# Altium schematic symbol library Connectors_EFR.SchLib: 133 symbols (part 1 of 3)
Pins are listed as number, name and electrical type; pins without a type are passive.

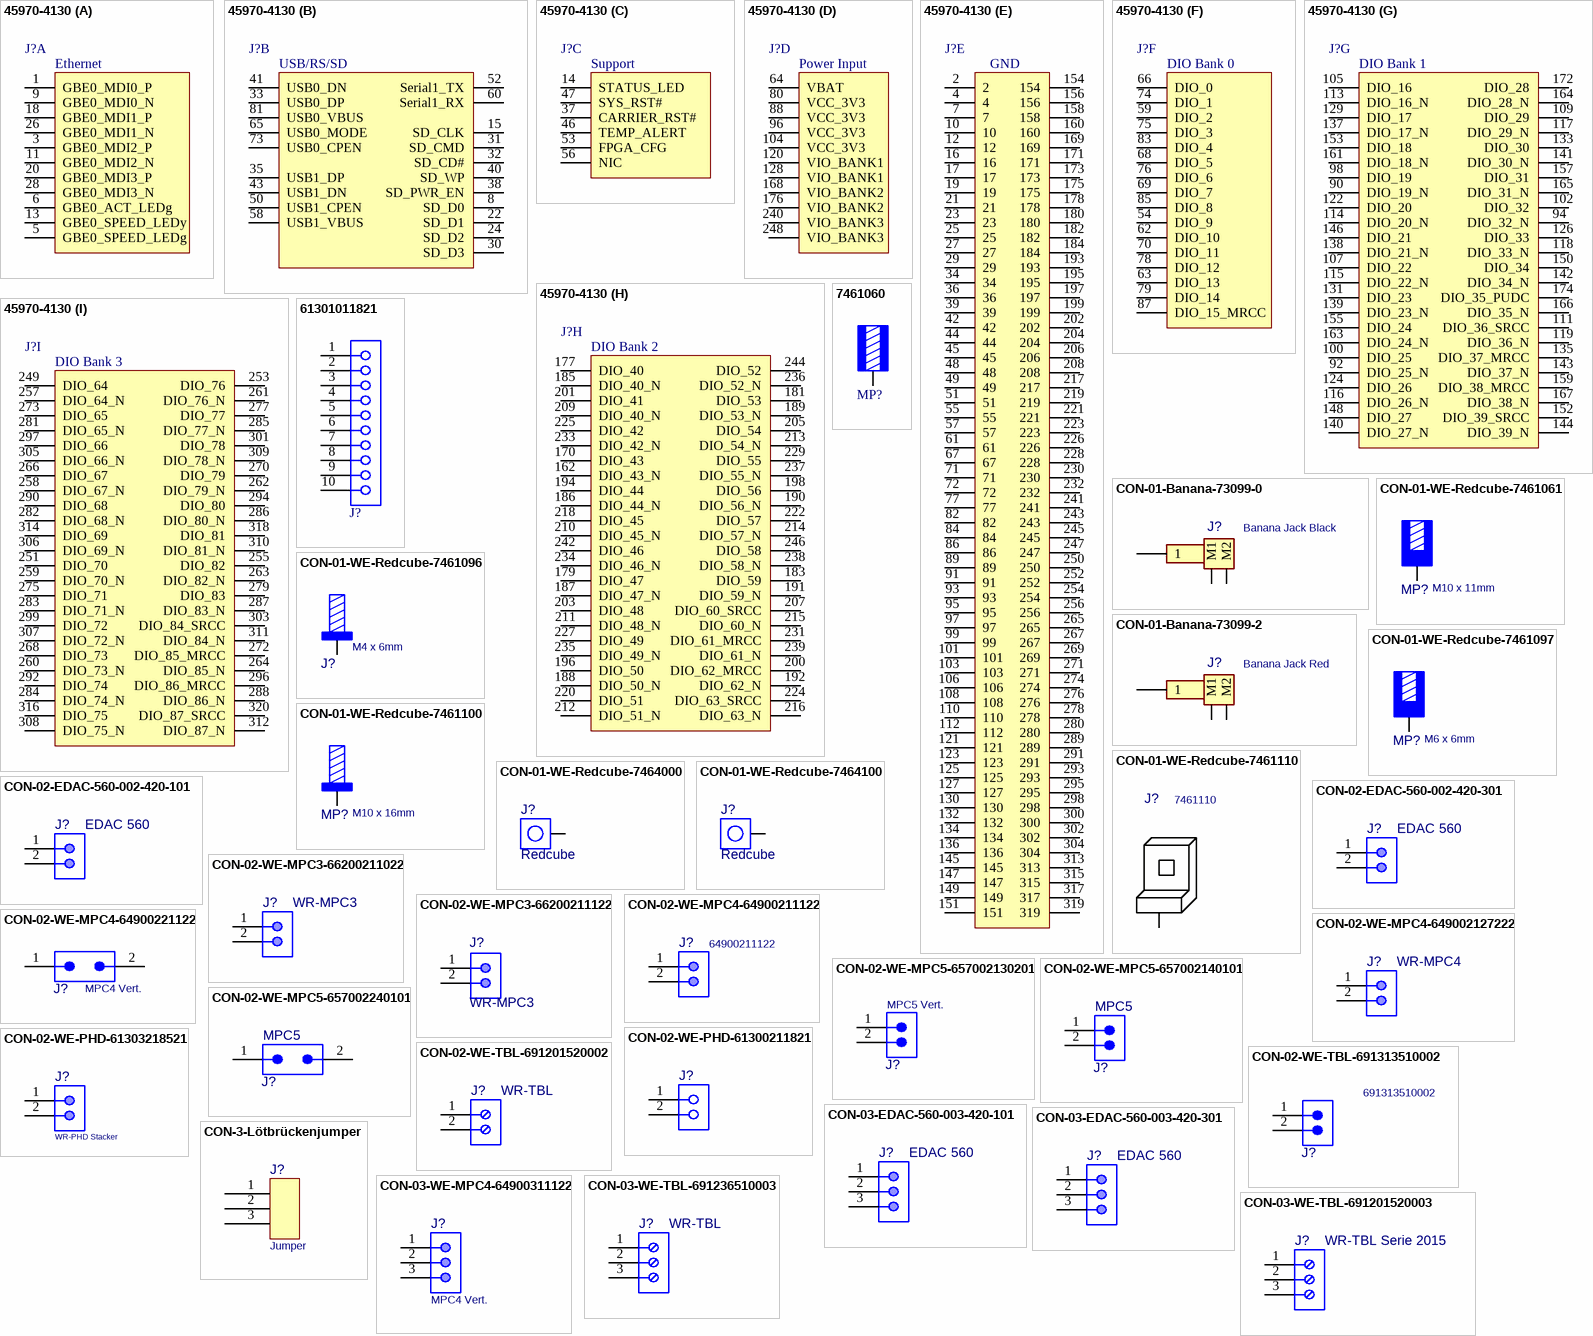
[diagram p0: symbols 45970-4130 to CON-03-WE-TBL-691236510003]

## 45970-4130
designator J?  (value not drawn)
SoM Molex Connector; Manufacturer P/N: 45970-4130; Datasheet Link: https://media.digikey.com/pdf/Data%20Sheets/Molex%20PDFs/459704130_Dwg.pdf; Height: 5.715mm; Manufacturer: Molex; Mouser Part Number: 538-45970-4130; Mouser Price/Stock: https://www.mouser.com/Search/Refine.aspx?Keyword=538-45970-4130; Mounting Technology: SMT
footprint 459704130
part A pins: 1 GBE0_MDI0_P, 3 GBE0_MDI2_P, 5 GBE0_SPEED_LEDg, 6 GBE0_ACT_LEDg, 9 GBE0_MDI0_N, 11 GBE0_MDI2_N, 13 GBE0_SPEED_LEDy, 18 GBE0_MDI1_P, 20 GBE0_MDI3_P, 26 GBE0_MDI1_N, 28 GBE0_MDI3_N
part B pins: 8 SD_D0, 15 SD_CLK, 22 SD_D1, 24 SD_D2, 30 SD_D3, 31 SD_CMD, 32 SD_CD#, 33 USB0_DP, 35 USB1_DP, 38 SD_PWR_EN, 40 SD_WP, 41 USB0_DN, 43 USB1_DN, 50 USB1_CPEN, 52 Serial1_TX, 58 USB1_VBUS, 60 Serial1_RX, 65 USB0_MODE, 73 USB0_CPEN, 81 USB0_VBUS
part C pins: 14 STATUS_LED, 37 CARRIER_RST#, 46 TEMP_ALERT, 47 SYS_RST#, 53 FPGA_CFG, 56 NIC
part D pins: 64 VBAT, 80 VCC_3V3, 88 VCC_3V3, 96 VCC_3V3, 104 VCC_3V3, 120 VIO_BANK1, 128 VIO_BANK1, 168 VIO_BANK2, 176 VIO_BANK2, 240 VIO_BANK3, 248 VIO_BANK3
part E pins: 2, 4, 7, 10, 12, 16, 17, 19, 21, 23, 25, 27, 29, 34, 36, 39, 42, 44, 45, 48, 49, 51, 55, 57, 61, 67, 71, 72, 77, 82, 84, 86, 89, 91, 93, 95, 97, 99, 101, 103, 106, 108, 110, 112, 121, 123, 125, 127, 130, 132, 134, 136, 145, 147, 149, 151, 154, 156, 158, 160, 169, 171, 173, 175, 178, 180, 182, 184, 193, 195, 197, 199, 202, 204, 206, 208, 217, 219, 221, 223, 226, 228, 230, 232, 241, 243, 245, 247, 250, 252, 254, 256, 265, 267, 269, 271, 274, 276, 278, 280, 289, 291, 293, 295, 298, 300, 302, 304, 313, 315, 317, 319
part F pins: 54 DIO_9, 59 DIO_2, 62 DIO_10, 63 DIO_13, 66 DIO_0, 68 DIO_5, 69 DIO_7, 70 DIO_11, 74 DIO_1, 75 DIO_3, 76 DIO_6, 78 DIO_12, 79 DIO_14, 83 DIO_4, 85 DIO_8, 87 DIO_15_MRCC
part G pins: 90 DIO_19_N, 92 DIO_25_N, 94 DIO_32_N, 98 DIO_19, 100 DIO_25, 102 DIO_32, 105 DIO_16, 107 DIO_22, 109 DIO_29, 111 DIO_36_SRCC, 113 DIO_16_N, 114 DIO_20_N, 115 DIO_22_N, 116 DIO_26_N, 117 DIO_29_N, 118 DIO_33_N, 119 DIO_36_N, 122 DIO_20, 124 DIO_26, 126 DIO_33, 129 DIO_17, 131 DIO_23, 133 DIO_30, 135 DIO_37_MRCC, 137 DIO_17_N, 138 DIO_21_N, 139 DIO_23_N, 140 DIO_27_N, 141 DIO_30_N, 142 DIO_34_N, 143 DIO_37_N, 144 DIO_39_N, 146 DIO_21, 148 DIO_27, 150 DIO_34, 152 DIO_39_SRCC, 153 DIO_18, 155 DIO_24, 157 DIO_31, 159 DIO_38_MRCC, 161 DIO_18_N, 163 DIO_24_N, 164 DIO_28_N, 165 DIO_31_N, 166 DIO_35_N, 167 DIO_38_N, 172 DIO_28, 174 DIO_35_PUDC
part H pins: 162 DIO_43_N, 170 DIO_43, 177 DIO_40, 179 DIO_47, 181 DIO_53, 183 DIO_59, 185 DIO_40_N, 186 DIO_44_N, 187 DIO_47_N, 188 DIO_50_N, 189 DIO_53_N, 190 DIO_56_N, 191 DIO_59_N, 192 DIO_62_N, 194 DIO_44, 196 DIO_50, 198 DIO_56, 200 DIO_62_MRCC, 201 DIO_41, 203 DIO_48, 205 DIO_54, 207 DIO_60_SRCC, 209 DIO_40_N, 210 DIO_45_N, 211 DIO_48_N, 212 DIO_51_N, 213 DIO_54_N, 214 DIO_57_N, 215 DIO_60_N, 216 DIO_63_N, 218 DIO_45, 220 DIO_51, 222 DIO_57, 224 DIO_63_SRCC, 225 DIO_42, 227 DIO_49, 229 DIO_55, 231 DIO_61_MRCC, 233 DIO_42_N, 234 DIO_46_N, 235 DIO_49_N, 236 DIO_52_N, 237 DIO_55_N, 238 DIO_58_N, 239 DIO_61_N, 242 DIO_46, 244 DIO_52, 246 DIO_58
part I pins: 249 DIO_64, 251 DIO_70, 253 DIO_76, 255 DIO_82, 257 DIO_64_N, 258 DIO_67_N, 259 DIO_70_N, 260 DIO_73_N, 261 DIO_76_N, 262 DIO_79_N, 263 DIO_82_N, 264 DIO_85_N, 266 DIO_67, 268 DIO_73, 270 DIO_79, 272 DIO_85_MRCC, 273 DIO_65, 275 DIO_71, 277 DIO_77, 279 DIO_83, 281 DIO_65_N, 282 DIO_68_N, 283 DIO_71_N, 284 DIO_74_N, 285 DIO_77_N, 286 DIO_80_N, 287 DIO_83_N, 288 DIO_86_N, 290 DIO_68, 292 DIO_74, 294 DIO_80, 296 DIO_86_MRCC, 297 DIO_66, 299 DIO_72, 301 DIO_78, 303 DIO_84_SRCC, 305 DIO_66_N, 306 DIO_69_N, 307 DIO_72_N, 308 DIO_75_N, 309 DIO_78_N, 310 DIO_81_N, 311 DIO_84_N, 312 DIO_87_N, 314 DIO_69, 316 DIO_75, 318 DIO_81, 320 DIO_87_SRCC
part A text: Ethernet
part B text: USB/RS/SD
part C text: Support
part D text: Power Input
part E text: GND
part F text: DIO Bank 0
part G text: DIO Bank 1
part H text: DIO Bank 2
part I text: DIO Bank 3

## 7461060
designator MP?, comment M10 x 17.5mm  (value not drawn)
WP-BUCF REDCUBE PRESS-FIT with internal thread, circumference, L16W16H17.5mm, M10 x 17.5mm, 350A; Manufacturer Part Number: 7461060; Manufacturer: Wurth Elektronik; Surface: Tin; ComponentLink1Description: Website Link; ComponentLink1URL: https://www.we-online.com/redexpert/article/7461060?ad; ComponentLink2Description: Datasheet Link; ComponentLink2URL: https://www.we-online.com/redexpert/spec/7461060?ad; Category: REDCUBE PRESS-FIT; Match Code: WP-BUCF; Mount: Press Fit; Operating Temperature Max: 150°C; Operating Temperature Min: -55°C; Packaging: Bulk; Length: 16mm; Width: 16mm; Height: 17.5mm; Material: Brass; Number of Pins: 20; Rated Current: 350A; Thread Length: 17.5mm; Thread Size: M10
footprint 7461060_chemical surface
footprint 7461060_HAL
pins: 1

## 61301011821
designator J?  (value not drawn)
WR-PHD Socket Header, THT, Vertical, pitch 2.54mm, 1 Row, 10P; Manufacturer: Wurth Elektronik; Contact Resistance: 20mOhm; Rated Current: 3A; Working Voltage: 250V; Withstanding Voltage: 500V; Manufacturer Part Number: 61301011821; Category: Board-to-Board Connectors; Match Code: WR-PHD; ComponentLink1Description: Website Link; ComponentLink1URL: https://www.we-online.com/redexpert/article/61301011821?ad; ComponentLink2Description: Datasheet Link; ComponentLink2URL: https://www.we-online.com/redexpert/spec/61301011821?ad; Mount: Through Hole; Operating Temperature Max: 105°C; Operating Temperature Min: -40°C; Packaging: Tray; Gender: Socket Header; Number of Pins: 10; Number of Rows: 1; Orientation: Vertical; Pitch: 2.54mm
footprint 61301011821
pins: 1, 2, 3, 4, 5, 6, 7, 8, 9, 10

## CON-01-Banana-73099-0
designator J?, comment Banana Jack Black
Banana Jack Connector Standard Banana Solder Black; Manufacturer: Pomona Electronics; Manufacturer P/N: 73099-0; ComponentLink1Description: Website; ComponentLink1URL: https://www.pomonaelectronics.com/products/hardware/4mm-mounting-safety-jack-pcb-right-angle; ComponentLink2Description: Datasheet; ComponentLink2URL: https://www.pomonaelectronics.com/sites/default/files/d73099_101.pdf; ComponentLink3Description: SnapEDA; ComponentLink3URL: https://www.snapeda.com/parts/73099-0/Pomona+Electronics/view-part/?ref=snap; Mounting Technology: THT; Color: Black; Series: 73099; Height (mm): 11.5; Length (mm): 33; Width (mm): 12
footprint CON-01-POMONA-73099-0 (Model 73099-0 Black / Right-Angle Mounting Safety Jack for PCB)
pins: 1, M1, M2

## CON-01-Banana-73099-2
designator J?, comment Banana Jack Red
Banana Jack Connector Standard Banana Solder Red; Manufacturer: Pomona Electronics; Manufacturer P/N: 73099-2; ComponentLink1Description: Website; ComponentLink1URL: https://www.pomonaelectronics.com/products/hardware/4mm-mounting-safety-jack-pcb-right-angle; ComponentLink2Description: Datasheet; ComponentLink2URL: https://www.pomonaelectronics.com/sites/default/files/d73099_101.pdf; ComponentLink3Description: SnapEDA; ComponentLink3URL: https://www.snapeda.com/parts/73099-2/Pomona+Electronics/view-part/?ref=snap; Mounting Technology: THT; Color: Red; Series: 73099; Height (mm): 11.5; Length (mm): 33; Width (mm): 12
footprint CON-01-POMONA-73099-2 (Model 73099-2 Red / Right-Angle Mounting Safety Jack for PCB)
pins: 1, M1, M2

## CON-01-WE-Redcube-7461061
designator MP?, comment M10 x 11mm
WP-BUFU REDCUBE PRESS-FIT with internal thread, full plain, L16W16H17.5mm, M10 x 11mm, 350A; Manufacturer P/N: 7461061; Manufacturer: Würth Elektronik; Surface: Tin; ComponentLink1Description: Website Link; ComponentLink1URL: https://www.we-online.com/redexpert/article/7461061?ad; ComponentLink2Description: Datasheet Link; ComponentLink2URL: https://www.we-online.com/redexpert/spec/7461061?ad; Category: REDCUBE PRESS-FIT; Match Code: WP-BUFU; Mounting Technology: Press Fit; Operating Temperature Max: 150°C; Operating Temperature Min: -55°C; Packaging: Bulk; Length: 16mm; Width: 16mm; Height: 17.5mm; Material: Brass; Number of Pins: 36; Rated Current: 350A; Thread Length: 11mm; Thread Size: M10
footprint 7461061_chemical surface
footprint 7461061_HAL
pins: 1

## CON-01-WE-Redcube-7461096
designator J?, comment M4 x 6mm
WP-SHFU REDCUBE PRESS-FIT with external thread, L7W7H9mm, M4 x 6mm, 130A; Manufacturer P/N: 7461096; Manufacturer: Würth Elektronik; Surface: Tin; ComponentLink1Description: Website Link; ComponentLink1URL: https://www.we-online.com/redexpert/article/7461096?ad; ComponentLink2Description: Datasheet Link; ComponentLink2URL: https://www.we-online.com/redexpert/spec/7461096?ad; Category: REDCUBE PRESS-FIT; Match Code: WP-SHFU; Mounting Technology: Press Fit; Operating Temperature Max: 150°C; Operating Temperature Min: -55°C; Packaging: Bulk; Length: 7mm; Width: 7mm; Height: 9mm; Material: Brass; Number of Pins: 9; Rated Current: 130A; Thread Length: 6mm; Thread Size: M4
footprint CON-01-WE-7461096_FOR_CHEMICAL_SURFACES (M4, thread 6mm)
footprint CON-01-WE-7461096_FOR_HAL (M4, thread 6mm)
pins: 1

## CON-01-WE-Redcube-7461097
designator MP?, comment M6 x 6mm
WP-BUFU REDCUBE PRESS-FIT with internal thread, full plain, L10W10H10.5mm, M6 x 6mm, 180A; Manufacturer P/N: 7461097; Manufacturer: Würth Elektronik; Surface: Tin; ComponentLink1Description: Website Link; ComponentLink1URL: https://www.we-online.com/redexpert/article/7461097?ad; ComponentLink2Description: Datasheet Link; ComponentLink2URL: https://www.we-online.com/redexpert/spec/7461097?ad; Category: REDCUBE PRESS-FIT; Match Code: WP-BUFU; Mounting Technology: Press Fit; Operating Temperature Max: 150°C; Operating Temperature Min: -55°C; Packaging: Bulk; Length: 10mm; Width: 10mm; Height: 10.5mm; Material: Brass; Number of Pins: 16; Rated Current: 180A; Thread Length: 6mm; Thread Size: M6
footprint 7461097_chemical surface
footprint 7461097_HAL
pins: 1

## CON-01-WE-Redcube-7461100
designator MP?, comment M10 x 16mm
WP-SHFU REDCUBE PRESS-FIT with external thread, L16W16H24mm, M10 x 16mm, 350A; Manufacturer P/N: 7461100; Manufacturer: Würth Elektronik; Surface: Tin; ComponentLink1Description: Website Link; ComponentLink1URL: https://www.we-online.com/redexpert/article/7461100?ad; ComponentLink2Description: Datasheet Link; ComponentLink2URL: https://www.we-online.com/redexpert/spec/7461100?ad; Category: REDCUBE PRESS-FIT; Match Code: WP-SHFU; Mounting Technology: Press Fit; Operating Temperature Max: 150°C; Operating Temperature Min: -55°C; Packaging: Bulk; Length: 16mm; Width: 16mm; Height: 24mm; Material: Brass; Number of Pins: 36; Rated Current: 350A; Thread Length: 16mm; Thread Size: M10
footprint 7461100_chemical surface
footprint 7461100_HAL
pins: 1

## CON-01-WE-Redcube-7461110
designator J?, comment 7461110
Wurth Elektronik REDCUBE 9 Pin Power Element, 130A, Press Fit, Right Angle; Manufacturer: Würth Elektronik; Geometry.Height: 14mm; Mouser Part Number: 710-7461110; Mouser Price/Stock: https://www.mouser.com/Search/Refine.aspx?Keyword=710-7461110; Manufacturer P/N: 7461110; Datasheet Link: https://componentsearchengine.com/Datasheets/1/7461110.pdf; Mounting Technology: Press Fit
footprint 7461110
pins: 1

## CON-01-WE-Redcube-7464000
designator J?, comment Redcube
WP-PLUG REDCUBE Direct Plug Terminal, 14.8x14.8mm, Red, 120A; Manufacturer P/N: 7464000; Manufacturer: Würth Elektronik; Pin Number: 12; ComponentLink1Description: Manufacturer; ComponentLink1URL: http://www.we-online.de; ComponentLink2Description: Datasheet; ComponentLink2URL: https://katalog.we-online.com/em/datasheet/7464000.pdf; Mounting Technology: Press-Fit; Contact Material: Copper Alloy; Contact Plating: Tin; Packaging: Bulk; Operating Temperature: -45 to +125degC; Height: 18.1mm; Publisher: Wurth Elektronik; Published Date: September 2019; Size: 14.8x14.8mm; Rated Current: 120A; Color: Red; Current (A): 120A
footprint CON-01-WE-7464000_for_HAL (Direct Plug Terminal, 12pins)
footprint CON-01-WE-7464000_for_chemical_surfaces (Direct Plug Terminal, 12pins)
pins: 1

## CON-01-WE-Redcube-7464100
designator J?, comment Redcube
WP-PLUG REDCUBE Direct Plug Terminal, 14.8x14.8mm, Black, 120A; Manufacturer P/N: 7464100; Manufacturer: Würth Elektronik; Pin Number: 12; ComponentLink1Description: Manufacturer; ComponentLink1URL: http://www.we-online.de; ComponentLink2Description: Datasheet; ComponentLink2URL: https://katalog.we-online.com/em/datasheet/7464100.pdf; Mounting Technology: Press-Fit; Contact Material: Copper Alloy; Contact Plating: Tin; Packaging: Bulk; Operating Temperature: -45 to +125degC; Height: 18.1mm; Publisher: Wurth Elektronik; Published Date: September 2019; Size: 14.8x14.8mm; Rated Current: 120A; Color: Black; Current (A): 120A
footprint CON-01-WE-7464100_for_HAL (Direct Plug Terminal, 12pins)
footprint CON-01-WE-7464100_for_chemical_surfaces (Direct Plug Terminal, 12pins)
pins: 1

## CON-02-EDAC-560-002-420-101
designator J?, comment EDAC 560
THT White Male 560 Series Waterproof Connector with Plastic Pegs, Vertical, Single Row, pitch 2.5 mm, 2 pins; Manufacturer P/N: 560-002-420-101; Pitch: 2.5 mm; Working Voltage: 250 V; Contact Resistance: 15 mOhm; PinNumber: 2; Current: 3A; ComponentLink1Description: Manufacturer; ComponentLink1URL: https://edac.net/series/560; ComponentLink2Description: Datasheet; ComponentLink2URL: https://files.edac.net/edac/content/560/560-002-420-101%20-%20EDAC%20E-SEAL%20Waterproof%20Connector.PDF; Manufacturer: EDAC; Operating Temperature: -40 to 105 °C; Gender: Male; Mounting Technology: THT; Orientation: Vertical; Supplier 1: Mouser; Supplier 2: Digi-Key; Supplier 3: Newark; Supplier Part Number 1: 587-560-002-420-101; Supplier Part Number 2: 151-1532-ND; Supplier Part Number 3: 78Y9693
footprint CON-02-EDAC_560-002-420-101 (EDAC 560 SERIES WATERPROOF CONNECTOR 2 Pin)
pins: 1, 2

## CON-02-EDAC-560-002-420-301
designator J?, comment EDAC 560
THT Blue Male 560 Series Waterproof Connector with Plastic Pegs, Vertical, Single Row, pitch 2.5 mm, 2 pins; Manufacturer P/N: 560-002-420-301; Pitch: 2.5 mm; Working Voltage: 250 V; Contact Resistance: 15 mOhm; PinNumber: 2; Current: 3A; ComponentLink1Description: Manufacturer; ComponentLink1URL: https://edac.net/series/560; ComponentLink2Description: Datasheet; ComponentLink2URL: https://files.edac.net/edac/content/560/560-002-420-301%20-%20EDAC%20E-SEAL%20Waterproof%20Connector.PDF; Manufacturer: EDAC; Operating Temperature: -40 to 105 °C; Gender: Male; Mounting Technology: THT; Orientation: Vertical; Supplier 1: Farnell; Supplier 2: Digi-Key; Supplier 3: Newark; Supplier Part Number 1: 2532336; Supplier Part Number 2: 151-1533-ND; Supplier Part Number 3: 80Y4252
footprint CON-02-EDAC_560-002-420-101 (EDAC 560 SERIES WATERPROOF CONNECTOR 2 Pin)
pins: 1, 2

## CON-02-WE-MPC3-66200211022
designator J?, comment WR-MPC3
THT Male Header WR-MPC3, with Snap-in Plastic Pegs, Right Angled, Single Row, pitch 3 mm, 2 pins; Manufacturer P/N: 66200211022; Manufacturer: Würth Elektronik; Pitch: 3 mm; Working Voltage: 250 VAC; Contact Resistance: 10 mOhm; PinNumber: 2; ComponentLink1Description: Manufacturer; ComponentLink1URL: http://www.we-online.de; ComponentLink2Description: Datasheet; ComponentLink2URL: https://katalog.we-online.de/em/datasheet/6620xx11022.pdf; Published Date: September 2018; Operating Temperature: -40 to 105 degC; Gender: Male; Mounting Technology: THT; Orientation: Right Angled
footprint CON-02-WE-66200211022 (3.00mm Male Single Row Angled Header with Plastic Pegs, 2p)
pins: 1, 2

## CON-02-WE-MPC3-66200211122
designator J?, comment WR-MPC3
THT Male Header WR-MPC3, Vertical, Single Row, pitch 3 mm, 2 pins; Manufacturer P/N: 66200211122; Manufacturer: Würth Elektronik; Pitch: 3 mm; Working Voltage: 250 VAC; Contact Resistance: 10 mOhm; PinNumber: 2; ComponentLink1Description: Manufacturer; ComponentLink1URL: http://www.we-online.de; ComponentLink2Description: Datasheet; ComponentLink2URL: https://katalog.we-online.de/em/datasheet/6620xx11122.pdf; Published Date: September 2018; Operating Temperature: -40 to 105 degC; Packaging: Tube; Gender: Male; Mounting Technology: THT; Orientation: Vertical
footprint CON-2-WR-66200211122 (3.00mm Male Single Row Vertical Header, 2p)
pins: 1, 2

## CON-02-WE-MPC4-64900211122
designator J?, comment 64900211122
THT Male Header WR-MPC4, Vertical, Single Row, pitch 4.2 mm, 2 pins; Manufacturer: Würth Elektronik; Pitch: 4.2 mm; Working Voltage: 600 VAC; Contact Resistance: 10 mOhm; Pin Number: 2; ComponentLink1Description: Manufacturer; ComponentLink1URL: http://www.we-online.de; ComponentLink2Description: Datasheet; ComponentLink2URL: https://katalog.we-online.de/em/datasheet/6490xx11122.pdf; Manufacturer P/N: 64900211122; Published Date: November 2019; Operating Temperature: -40 to 105 degC; Packaging: Tray; Gender: Male; Mounting Technology: THT; Orientation: Vertical
footprint CON-02-WE-64900211122 (4.20mm Male Single Row Vertical Header, 2p)
pins: 1, 2

## CON-02-WE-MPC4-64900221122
designator J?, comment MPC4 Vert.
WR-MPC4 THT Male Vertical Header, pitch 4.2mm, 2p; Manufacturer P/N: 64900221122; Manufacturer: Würth Elektronik; Contact Resistance: 10mΩ; Insulation Resistance: 1000MΩ; Rated Current: 9A; Working Voltage: 600VAC; ComponentLink1Description: Website Link; ComponentLink1URL: https://www.we-online.com/redexpert/article/64900221122?ad; ComponentLink2Description: Datasheet Link; ComponentLink2URL: https://www.we-online.com/redexpert/spec/64900221122?ad; Category: Wire-to-Board Connectors; Match Code: WR-MPC4; Mounting Technology: THT; Operating Temperature Max: 105°C; Operating Temperature Min: -40°C; Packaging: Tray; Gender: Male; Number of Pins: 2; Number of Rows: 2; Orientation: Vertical; Pitch: 4.2mm
footprint 64900221122
pins: 1, 2

## CON-02-WE-MPC4-649002127222
designator J?, comment WR-MPC4
THT Male Header WR-MPC4, with Snap-in Plastic Pegs, Right Angled, Single Row, pitch 4.2 mm, 2 pins; Manufacturer P/N: 649002127222; Manufacturer: Würth Elektronik; Pitch: 4.2 mm; Working Voltage: 600 VAC; Contact Resistance: 10 mOhm; PinNumber: 2; ComponentLink1Description: Manufacturer; ComponentLink1URL: http://www.we-online.de; ComponentLink2Description: Datasheet; ComponentLink2URL: https://katalog.we-online.de/em/datasheet/6490xx127222.pdf; Published Date: September 2018; Operating Temperature: -40 to 105 degC; Gender: Male; Mounting Technology: THT; Orientation: Right Angled
footprint CON-02-WE-649002127222 (4.20mm Male Single Row Angled Header with Mounting Pegs, 2p)
pins: 1, 2

## CON-02-WE-MPC5-657002130201
designator J?, comment MPC5 Vert.
WR-MPC5 5.70 mm Male Header Single Row Vertical, 2p; Manufacturer P/N: 657002130201; Manufacturer: Würth Elektronik; Contact Resistance: 2mOhm; Pitch: 5.7mm; Rated Current: 26A; Working Voltage: 600V (AC); Category: Wire-to-Board Connectors; Match Code: WR-MPC5; ComponentLink1Description: Website Link; ComponentLink1URL: https://www.we-online.com/redexpert/article/657002130201?ad; ComponentLink2Description: Datasheet Link; ComponentLink2URL: https://www.we-online.com/redexpert/spec/657002130201?ad; Mounting Technology: THT; Operating Temperature Max: 105°C; Operating Temperature Min: -40°C; Packaging: Tray; Gender: Male; Number of Pins: 2; Number of Rows: 1; Orientation: Vertical
footprint 657002130201
pins: 1, 2

## CON-02-WE-MPC5-657002140101
designator J?, comment MPC5
WR-MPC5 5.70 mm Male Header Single Row Right Angled with Snap-in Plastic Pegs, 2p; Manufacturer P/N: 657002140101; Manufacturer: Würth Elektronik; Contact Resistance: 2mOhm; Pitch: 5.7mm; Rated Current: 26A; Working Voltage: 600V (AC); Category: Wire-to-Board Connectors; Match Code: WR-MPC5; ComponentLink1Description: Website Link; ComponentLink1URL: https://www.we-online.com/redexpert/article/657002140101?ad; ComponentLink2Description: Datasheet Link; ComponentLink2URL: https://www.we-online.com/redexpert/spec/657002140101?ad; Mounting Technology: THT; Operating Temperature Max: 105°C; Operating Temperature Min: -40°C; Packaging: Tray; Gender: Male; Number of Pins: 2; Number of Rows: 1; Orientation: Right Angled
footprint CON-02-WE-657002140101 (WR-MPC5 THT Single Row Male Header Right Angled, 02p)
pins: 1, 2

## CON-02-WE-MPC5-657002240101
designator J?, comment MPC5
WR-MPC5 5.70 mm Male Header Dual Row Right Angled with Snap-in Plastic Pegs, 2p; Manufacturer P/N: 657002240101; Manufacturer: Würth Elektronik; Contact Resistance: 2mOhm; Pitch: 5.7mm; Rated Current: 26A; Working Voltage: 600V (AC); Category: Wire-to-Board Connectors; Match Code: WR-MPC5; ComponentLink1Description: Website Link; ComponentLink1URL: https://www.we-online.com/redexpert/article/657002240101?ad; ComponentLink2Description: Datasheet Link; ComponentLink2URL: https://www.we-online.com/redexpert/spec/657002240101?ad; Mounting Technology: THT; Operating Temperature Max: 105°C; Operating Temperature Min: -40°C; Packaging: Tray; Gender: Male; Number of Pins: 2; Number of Rows: 2; Orientation: Right Angled
footprint CON-02-WE-657002240101 (Footprint not found)
pins: 1, 2

## CON-02-WE-PHD-61300211821
designator J?
WR-PHD Socket Header, THT, pitch 2.54mm, Single Row, Vertical, 2p; Manufacturer P/N: 61300211821; Manufacturer: Würth Elektronik; Pin Number: 2; Rated Current: 3A; Working Voltage: 250VAC; Withstanding Voltage: 500VAC; Contact Resistance: 20mOhm; ComponentLink1Description: Manufacturer; ComponentLink1URL: http://www.we-online.de; ComponentLink2Description: Datasheet; ComponentLink2URL: https://www.we-online.com/catalog/datasheet/61300211821.pdf; Published Date: May 2020; Pitch: 2.54mm; Operating Temperature: -40 to +125degC; Mounting Technology: THT; Packaging: Tray; Gender: Socket Header; Row Number: Single; Orientation: Vertical
footprint CON-WE-61300211821 (Socket Header, Pitch 2.54 mm, THT, Vertical, single row, 2p)
pins: 1, 2

## CON-02-WE-PHD-61303218521
designator J?, comment WR-PHD Stacker
WR-PHD Pin Header, THT, pitch 2.54mm, Single Row, Vertical, 2p; Manufacturer P/N: 61303218521; Manufacturer: Würth Elektronik; Pin Number: 2; Rated Current: 3A; Working Voltage: 250VAC; Withstanding Voltage: 500VAC; Contact Resistance: 20mOhm; ComponentLink1Description: Manufacturer; ComponentLink1URL: https://www.we-online.com/catalog/en/PHD_2_54_THT_BOARD_STACKER_6130321XX21; ComponentLink2Description: Datasheet; ComponentLink2URL: https://www.we-online.com/catalog/datasheet/61303218521.pdf; Published Date: May 2020; Pitch: 2.54mm; Operating Temperature: -40 to +105degC; Mounting Technology: THT; Packaging: Bag; Gender: Pin Header; Row Number: Single; Orientation: Vertical
footprint CON-02-61303218521 (Pin Header, pitch 2.54 mm, THT, Vertical, single row, 2p)
pins: 1, 2

## CON-02-WE-TBL-691201520002
designator J?, comment WR-TBL
Serie 2015 - 5.08 mm 45deg Entry Modular with Rising Cage Clamp WR-TBL, 2 pin; Manufacturer P/N: 691201520002; Manufacturer: Würth Elektronik; PinNumber: 2; Pitch: 5.08 mm; ComponentLink1Description: Manufacturer; ComponentLink1URL: http://www.we-online.de; ComponentLink2Description: Datasheet; ComponentLink2URL: http://katalog.we-online.de/em/datasheet/6912015200xx.pdf; Published Date: June 2018; Operating Temperature: -30 to 120 degC; Mounting Technology: THT; Packaging: Box
footprint CON-02-WE-691201520002 (Footprint not found)
pins: 1, 2

## CON-02-WE-TBL-691313510002
designator J?, comment 691313510002
WR-TBL Series 313 Close Horizontal PCB Header, THT, pitch 5.08mm, 2p; Manufacturer: Wurth Elektronik; Modularity: No; Rated Current: 20A; Working Voltage: 300V; ComponentLink1Description: Website Link; ComponentLink1URL: https://www.we-online.com/redexpert/article/691313510002?ad; ComponentLink2Description: Datasheet Link; ComponentLink2URL: https://www.we-online.com/redexpert/spec/691313510002?ad; Manufacturer P/N: 691313510002; Category: Terminal Blocks; Series: WR-TBL; Mounting Technology: THT; Operating Temperature Max: 105°C; Operating Temperature Min: -40°C; Packaging: Box; Application: Pluggable; Number of Pins: 2; Number of Rows: 1; Orientation: Horizontal; Pitch: 5.08mm
footprint CON-02-WE-691313510002 (5,08mm - PCB Headers - Horizontal - Closed ends - 02p)
pins: 1, 2

## CON-03-EDAC-560-003-420-101
designator J?, comment EDAC 560
THT White Male 560 Series Waterproof Connector with Plastic Pegs, Vertical, Single Row, pitch 2.5 mm, 3 pins; Manufacturer P/N: 560-003-420-101; Pitch: 2.5 mm; Working Voltage: 250 V; Contact Resistance: 15 mOhm; PinNumber: 3; Current: 3A; ComponentLink1Description: Manufacturer; ComponentLink1URL: https://edac.net/series/560; ComponentLink2Description: Datasheet; ComponentLink2URL: https://files.edac.net/edac/content/560/560-003-420-101%20-%20EDAC%20E-SEAL%20Waterproof%20Connector.PDF; Manufacturer: EDAC; Operating Temperature: -40 to 105 °C; Gender: Male; Mounting Technology: THT; Orientation: Vertical; Supplier 1: Mouser; Supplier Part Number 1: 587-560-003-420-101
footprint CON-03-EDAC_560-003-420-101 (EDAC 560 SERIES WATERPROOF CONNECTOR 3 Pin)
pins: 1, 2, 3

## CON-03-EDAC-560-003-420-301
designator J?, comment EDAC 560
THT Blue Male 560 Series Waterproof Connector with Plastic Pegs, Vertical, Single Row, pitch 2.5 mm, 3 pins; Manufacturer P/N: 560-003-420-301; Pitch: 2.5 mm; Working Voltage: 250 V; Contact Resistance: 15 mOhm; PinNumber: 3; Current: 3A; ComponentLink1Description: Manufacturer; ComponentLink1URL: https://edac.net/series/560; ComponentLink2Description: Datasheet; ComponentLink2URL: https://files.edac.net/edac/content/560/560-003-420-301%20-%20EDAC%20E-SEAL%20Waterproof%20Connector.PDF; Manufacturer: EDAC; Operating Temperature: -40 to 105 °C; Gender: Male; Mounting Technology: THT; Orientation: Vertical
footprint CON-03-EDAC_560-003-420-101 (EDAC 560 SERIES WATERPROOF CONNECTOR 3 Pin)
pins: 1, 2, 3

## CON-3-Lötbrückenjumper
designator J?, comment Jumper
footprint CON-3-Lötbrückenjumper (3 Pads 0603)
pins: 1, 2, 3

## CON-03-WE-MPC4-64900311122
designator J?, comment MPC4 Vert.
WR-MPC4 4.2mm Male Single Row Vertical Header, 3p; Manufacturer P/N: 64900311122; Manufacturer: Würth Elektronik; Working Voltage: 600VAC; Contact Resistance: 10mOhm; Pin Number: 3; ComponentLink1Description: Manufacturer; ComponentLink1URL: http://www.we-online.de; ComponentLink2Description: Datasheet; ComponentLink2URL: https://www.we-online.com/catalog/datasheet/64900311122.pdf; Published Date: March 2020; Pitch: 4.2mm; Operating Temperature: -40 to +105degC; Packaging: Tray; Gender: Male; Mounting Technology: THT; Type: Vertical; Row Number: Single
footprint CON-03-WE-64900311122 (4.20mm Male Single Row Vertical Header, 3p)
pins: 1, 2, 3

## CON-03-WE-TBL-691201520003
designator J?, comment WR-TBL Serie 2015
Serie 2015 - 5.08 mm 45deg Entry Modular with Rising Cage Clamp WR-TBL, 3 pin; Manufacturer P/N: 691201520003; Manufacturer: Würth Elektronik; PinNumber: 3; Pitch: 5.08 mm; ComponentLink1Description: Manufacturer; ComponentLink1URL: http://www.we-online.de; ComponentLink2Description: Datasheet; ComponentLink2URL: http://katalog.we-online.de/em/datasheet/6912015200xx.pdf; Published Date: June 2018; Operating Temperature: -30 to 120 degC; Mounting Technology: THT
footprint CON-03-WE-691201520003 (Serie 2015 - 5.08 mm _ 3 pins)
pins: 1, 2, 3

## CON-03-WE-TBL-691236510003
designator J?, comment WR-TBL
WR-TBL Serie 2365 Horizontal Entry, Rising Cage Clamp, pitch 5.08mm, 3p; Manufacturer P/N: 691236510003; Manufacturer: Würth Elektronik; Compliance: Lead free / RoHS; Modularity: Yes; PCB/Cable/Panel: PCB; PinNumber: 3; Rated Current [UL]: 20A; Working Voltage [UL]: 300VAC; Current (A): 20; ComponentLink1Description: Manufacturer; ComponentLink1URL: http://www.we-online.de; ComponentLink2URL: https://katalog.we-online.de/em/datasheet/691236510003.pdf; ComponentLink2Description: Datasheet; Mounting Technology: THT; Packaging: Box; Operating Temperature: -30 to +120degC; Pitch: 5.08mm; Published Date: October 2019; Orientation: Horizontal; Application: Rising Cage Clamp; Value: =PartNumber; Voltage (V): 300VAC; Power (W): *; Capacitance: *; Tolerance: *; Resistance: *; Typ: *
footprint CON-03-WE-691236510003 (Horizontal Cable Entry with Rising Cage Clamp, pitch 5.08mm, 03p)
pins: 1, 2, 3

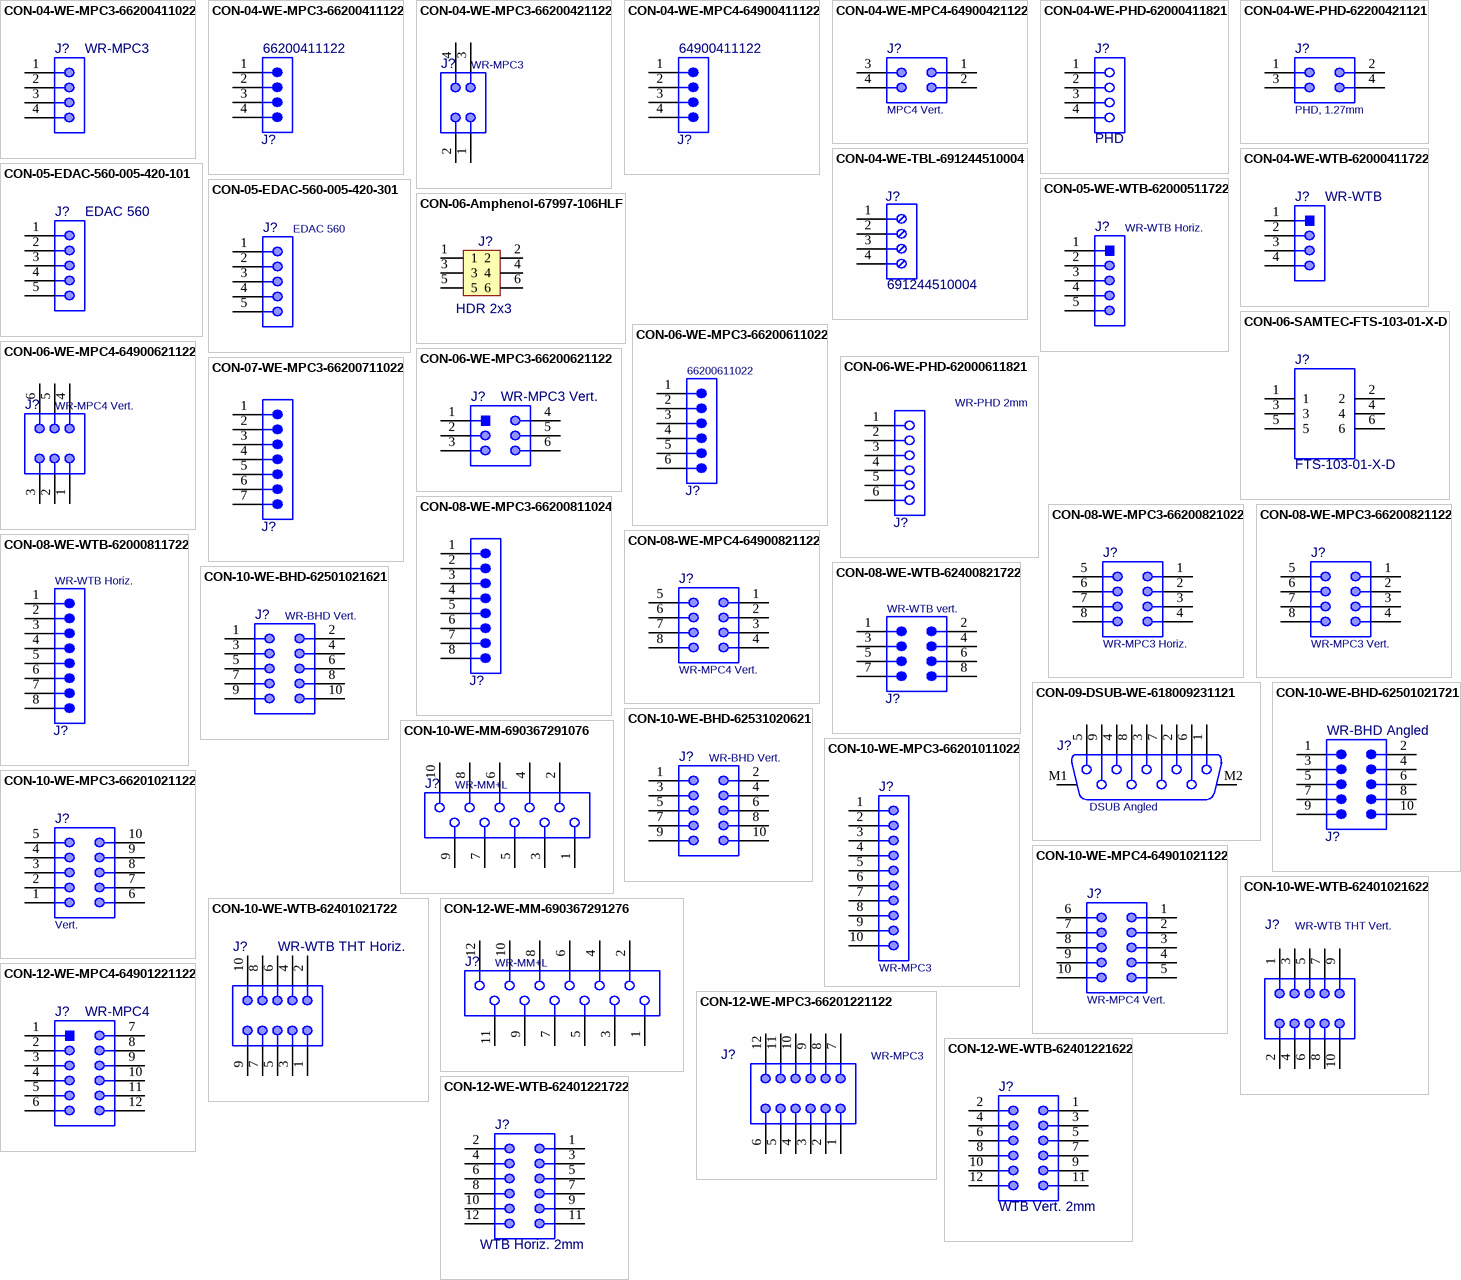
[diagram p1: symbols CON-04-WE-MPC3-66200411022 to CON-12-WE-WTB-62401221722]

## CON-04-WE-MPC3-66200411022
designator J?, comment WR-MPC3
THT Male Header WR-MPC3, with Snap-in Plastic Pegs, Right Angled, Single Row, pitch 3 mm, 4 pins; Manufacturer P/N: 66200411022; Manufacturer: Würth Elektronik; Pitch: 3 mm; Contact Resistance: 10 mOhm; PinNumber: 4; Working Voltage: 250 VAC; ComponentLink1Description: Manufacturer; ComponentLink1URL: http://www.we-online.de; ComponentLink2Description: Datasheet; ComponentLink2URL: https://katalog.we-online.de/em/datasheet/6620xx11022.pdf; Published Date: September 2018; Operating Temperature: -40 to 105 degC; Gender: Male; Mounting Technology: THT; Orientation: Right Angled
footprint CON-4-WE-66200411022 (3.00mm Male Single Row Angled Header with Plastic Pegs, 4p)
pins: 1, 2, 3, 4

## CON-04-WE-MPC3-66200411122
designator J?, comment 66200411122
WR-MPC3 THT Male Vertical Header, pitch 3mm, 4p; Manufacturer: Würth Elektronik; Contact Resistance: 10mΩ; Insulation Resistance: >1000MΩ; Rated Current: 5A; Working Voltage: 250VAC; ComponentLink1Description: Website Link; ComponentLink1URL: https://www.we-online.com/redexpert/article/66200411122?ad; ComponentLink2Description: Datasheet Link; ComponentLink2URL: https://www.we-online.com/redexpert/spec/66200411122?ad; Manufacturer P/N: 66200411122; Category: Wire-to-Board Connectors; Match Code: WR-MPC3; Mounting Technology: THT; Operating Temperature Max: 105°C; Operating Temperature Min: -40°C; Packaging: Tube; Length: 15.65mm; Width: 5.57mm; Height: 11mm; Gender: Male; Number of Pins: 4; Number of Rows: 1; Orientation: Vertical; Pitch: 3mm
footprint 66200411122 (3.00mm Male Single Row Vertical Header, 4p)
pins: 1, 2, 3, 4

## CON-04-WE-MPC3-66200421122
designator J?, comment WR-MPC3
THT Male Header WR-MPC3, Vertical, Dual Row, pitch 3 mm, 4 pins; Manufacturer P/N: 66200421122; Manufacturer: Würth Elektronik; Pitch: 3 mm; Working Voltage: 250 VAC; Contact Resistance: 10 mOhm; PinNumber: 4; ComponentLink1Description: Manufacturer; ComponentLink1URL: http://www.we-online.de; ComponentLink2Description: Datasheet; ComponentLink2URL: https://katalog.we-online.de/em/datasheet/6620xx21122.pdf; Published Date: September 2018; Operating Temperature: -40 to 105 degC; Packaging: Tube; Gender: Male; Mounting Technology: THT; Orientation: Vertical
footprint CON-04-WE-66200421122 (Dual row Vertical header 04p)
pins: 1, 2, 3, 4

## CON-04-WE-MPC4-64900411122
designator J?, comment 64900411122
WR-MPC4 THT Male Vertical Header, pitch 4.2mm, 4p; Manufacturer: Würth Elektronik; Contact Resistance: 10mΩ; Insulation Resistance: 1000MΩ; Rated Current: 9A; Working Voltage: 600VAC; ComponentLink1Description: Website Link; ComponentLink1URL: https://www.we-online.com/redexpert/article/64900411122?ad; ComponentLink2Description: Datasheet Link; ComponentLink2URL: https://www.we-online.com/redexpert/spec/64900411122?ad; Manufacturer P/N: 64900411122; Category: Wire-to-Board Connectors; Match Code: WR-MPC4; Mounting Technology: THT; Operating Temperature Max: 105°C; Operating Temperature Min: -40°C; Packaging: Tray; Gender: Male; Number of Pins: 4; Number of Rows: 1; Orientation: Vertical; Pitch: 4.2mm
footprint 64900411122
pins: 1, 2, 3, 4

## CON-04-WE-MPC4-64900421122
designator J?, comment MPC4 Vert.
WR-MPC4 4.2mm Male Dual Row Vertical Header, 4p; Manufacturer P/N: 64900421122; Manufacturer: Würth Elektronik; Working Voltage: 600VAC; Contact Resistance: 10mOhm; Pin Number: 4; ComponentLink1Description: Manufacturer; ComponentLink1URL: http://www.we-online.de; ComponentLink2Description: Datasheet; ComponentLink2URL: https://www.we-online.com/catalog/datasheet/64900421122.pdf; Published Date: March 2020; Pitch: 4.2mm; Operating Temperature: -40 to +105degC; Packaging: Tray; Gender: Male; Mounting Technology: THT; Type: Vertical; Row Number: Dual
footprint CON-WE-64900421122 (4.20mm Male Dual Row Vertical Header, 4p)
pins: 1, 2, 3, 4

## CON-04-WE-PHD-62000411821
designator J?, comment PHD
WR-PHD Socket Header, THT, pitch 2mm, Single Row, Vertical, 4p; Manufacturer P/N: 62000411821; Manufacturer: Würth Elektronik; Pin Number: 4; Rated Current: 2A; Working Voltage: 250VAC; Withstanding Voltage: 500VAC; Contact Resistance: 20mOhm; ComponentLink1Description: Manufacturer; ComponentLink1URL: http://www.we-online.de; ComponentLink2Description: Datasheet; ComponentLink2URL: https://www.we-online.com/catalog/datasheet/62000411821.pdf; Published Date: May 2020; Pitch: 2mm; Operating Temperature: -40 to +105degC; Mounting Technology: THT; Packaging: Tube; Gender: Socket Header; Row Number: Single; Orientation: Vertical
footprint CON-04-WE-PHD-62000411821 (Footprint not found)
pins: 1, 2, 3, 4

## CON-04-WE-PHD-62200421121
designator J?, comment PHD, 1.27mm
WR-PHD Pin Header, THT, pitch 1.27mm, Dual Row, Vertical, 4p; Manufacturer P/N: 62200421121; Manufacturer: Würth Elektronik; Pin Number: 4; Rated Current: 1A; Working Voltage: 100VAC; Withstanding Voltage: 500VAC; Contact Resistance: 20mOhm; ComponentLink1Description: Manufacturer; ComponentLink1URL: http://www.we-online.de; ComponentLink2Description: Datasheet; ComponentLink2URL: https://www.we-online.com/catalog/datasheet/62200421121.pdf; Published Date: May 2020; Pitch: 1.27mm; Operating Temperature: -40 to +105degC; Mounting Technology: THT; Packaging: Box; Gender: Pin Header; Row Number: Dual; Orientation: Vertical
footprint CON-04-WE-62200421121 (Pin Header, pitch 1.27 mm, THT, Vertical, dual row, 4p)
pins: 1, 2, 3, 4

## CON-04-WE-TBL-691244510004
designator J?, comment 691244510004
WR-TBL Series 2445 Horizontal Entry Modular, Through Hole, pitch 5.08mm, 4p; Manufacturer: Würth Elektronik; Pin Number: 4; Rated Current: 16A; Working Voltage: 300V; PCB/Cable/Panel: PCB; Modularity: No; ComponentLink1Description: Manufacturer Link; ComponentLink1URL: https://www.we-online.com/redexpert/article/691244510004?ad; ComponentLink2Description: Datasheet; ComponentLink2URL: https://www.we-online.com/redexpert/spec/691244510004?ad; Category: Terminal Blocks; Match Code: WR-TBL; Manufacturer P/N: 691244510004; Mounting Technology: THT; Operating Temperature Max: 120°C; Operating Temperature Min: -30°C; Packaging: Box; Pitch: 5.08mm; Orientation: Horizontal; Application: Rising Cage Clamp
footprint CON-04-WE-691244510004 (Serie 2445 - 5.08 mm _ 4 pins)
pins: 1, 2, 3, 4

## CON-04-WE-WTB-62000411722
designator J?, comment WR-WTB
Male Shrouded Header WR-WTB, THT, Right Angled, pitch 2 mm, 1 x 4 position; Manufacturer: Würth Elektronik; Manufacturer P/N: 62000411722; Pitch: 2mm; Working Voltage: 125VAC; Position: 1x4; Contact Resistance: 20mOhm; PinNumber: 4; Gender: Male; Datasheet URL: https://katalog.we-online.de/em/datasheet/6200xx11722.pdf; Orientation: RightAngled; Mounting Technology: THT; Operating Temperature: -25to85degC; Publisher: WurthElektronik; ComponentLink1Description: Hersteller; ComponentLink1URL: https://katalog.we-online.de/de/em/WTB_2_00_MALE_HORIZONTAL_SHROUDED_HEADER_6200XX11722; ComponentLink2Description: Datenblatt; ComponentLink2URL: https://katalog.we-online.de/em/datasheet/6200xx11722.pdf
footprint CON-04-WE-62000411722 (2.00mm Male Horizontal Shrouded Header, 4p)
pins: 1, 2, 3, 4

## CON-05-EDAC-560-005-420-101
designator J?, comment EDAC 560
THT White Male 560 Series Waterproof Connector with Plastic Pegs, Vertical, Single Row, pitch 2.5 mm, 5 pins; Manufacturer P/N: 560-005-420-101; Pitch: 2.5 mm; Working Voltage: 250 V; Contact Resistance: 15 mOhm; PinNumber: 5; Current: 3A; ComponentLink1Description: Manufacturer; ComponentLink1URL: https://edac.net/series/560; ComponentLink2Description: Datasheet; ComponentLink2URL: https://files.edac.net/edac/content/560/560-005-420-101%20-%20EDAC%20E-SEAL%20Waterproof%20Connector.PDF; Manufacturer: EDAC; Operating Temperature: -40 to 105 °C; Gender: Male; Mounting Technology: THT; Orientation: Vertical; Supplier 1: Mouser; Supplier 2: Digi-Key; Supplier Part Number 1: 587-560-005-420-101; Supplier Part Number 2: 151-1552-ND
footprint CON-05-EDAC_560-005-420-101 (EDAC 560 SERIES WATERPROOF CONNECTOR 5 Pin)
pins: 1, 2, 3, 4, 5

## CON-05-EDAC-560-005-420-301
designator J?, comment EDAC 560
THT Blue Male 560 Series Waterproof Connector with Plastic Pegs, Vertical, Single Row, pitch 2.5 mm, 5 pins; Manufacturer P/N: 560-005-420-301; Pitch: 2.5 mm; Working Voltage: 250 V; Contact Resistance: 15 mOhm; PinNumber: 5; Current: 3A; ComponentLink1Description: Manufacturer; ComponentLink1URL: https://edac.net/series/560; ComponentLink2Description: Datasheet; ComponentLink2URL: https://files.edac.net/edac/content/560/560-005-420-301%20-%20EDAC%20E-SEAL%20Waterproof%20Connector.PDF; Manufacturer: EDAC; Operating Temperature: -40 to 105 °C; Gender: Male; Mounting Technology: THT; Orientation: Vertical; Supplier 1: Mouser; Supplier 2: Digi-Key; Supplier Part Number 1: 587-560-005-420-301; Supplier Part Number 2: 151-1553-ND
footprint CON-05-EDAC_560-005-420-101 (EDAC 560 SERIES WATERPROOF CONNECTOR 5 Pin)
pins: 1, 2, 3, 4, 5

## CON-05-WE-WTB-62000511722
designator J?, comment WR-WTB Horiz.
Male Shrouded Header WR-WTB, THT, Right Angled, pitch 2 mm, 1 x 5 position; Manufacturer: Würth Elektronik; Manufacturer P/N: 62000511722; Pitch: 2mm; Contact Resistance: 20mOhm; Position: 1x5; Working Voltage: 125VAC; PinNumber: 5; Package Reference: 62000511722; Gender: Male; Packaging: Bag; Datasheet URL: https://katalog.we-online.de/em/datasheet/6200xx11722.pdf; Orientation: RightAngled; Manufacturer URL: http://www.we-online.de; Operating Temperature: -25to85degC; Publisher: WurthElektronik; Mounting Technology: THT
footprint CON-05-62000511722 (2.00mm Male Horizontal Shrouded Header, 5p)
pins: 1, 2, 3, 4, 5

## CON-06-Amphenol-67997-106HLF
designator J?, comment HDR 2x3
CONN HEADER 6POS .100 STR 30AU; Manufacturer: Amphenol FCI; Manufacturer P/N: 67997-106HLF; Number of Contacts: 6; Insulation Resistance: 5GR; Max Voltage Rating (AC): 1.5kV; Gender: Male; Current Rating: 3A; Connector Type: Male Pin; Pitch: 2.54mm; Row Spacing: 0.1inch; Contact Post Length: 3.05mm; RoHS: Yes; Category: Headers and Wire Housings; Stock 1: 1387; Pricing 1: 1=1,78000, 10=1,61400, 100=1,38370, 500=1,15308, 1000=0,98835, 5000=0,87634, 10000=0,85657 (USD); Mounting Technology: THT; Contact Plating: Gold,GXT; Housing Color: Black; Contact Material: Bronze; Color: Black; Housing Material: Thermoplastic; Min Operating Temperature: -65°C; Max Operating Temperature: 125°C; Termination: Through Hole; Number of Rows: 2; Orientation: Straight; Number of Positions: 6; Packaging: Bulk; Package Quantity: 100; Contact Gender: Male; Voltage Rating: 1.5kV; Length: 7.62mm; Contact Mating Length: 0.23inch; Depth: 4.83mm; Radiation Hardening: No; Lead Free: Lead Free; REACH SVHC: No SVHC; Flammability Rating: UL94 V-0; ComponentLink1URL: https://datasheet.ciiva.com/5153/67996-222463-5153820.pdf?src-supplier=Mouser; ComponentLink1Description: https://datasheet.ciiva.com/5153/67996-222463-5153820.pdf?src-supplier=Mouser; ComponentLink2URL: https://datasheet.ciiva.com/16726/67996-16726286.pdf?src-supplier=Avnet+Europe; ComponentLink2Description: https://datasheet.ciiva.com/16726/67996-16726286.pdf?src-supplier=Avnet+Europe; ComponentLink3URL: https://datasheet.ciiva.com/722/67996-722044.pdf?src-supplier=Digi-Key; ComponentLink3Description: https://datasheet.ciiva.com/722/67996-722044.pdf?src-supplier=Digi-Key; ComponentLink4URL: https://datasheet.ciiva.com/10149/67996-10149221.pdf?src-supplier=Avnet; ComponentLink4Description: https://datasheet.ciiva.com/10149/67996-10149221.pdf?src-supplier=Avnet; ComponentLink5URL: https://datasheet.ciiva.com/46393/1876884-46393067.pdf?src-supplier=Element14; ComponentLink5Description: https://datasheet.ciiva.com/46393/1876884-46393067.pdf?src-supplier=Element14; Supplier 1: Digi-Key; Supplier Part Number 1: 609-3393-ND
footprint HDR_2x3_2.55mm
pins: 1, 2, 3, 4, 5, 6

## CON-06-SAMTEC-FTS-103-01-X-D
designator J?, comment FTS-103-01-X-D
Micro Low Profile Header Strips; Manufacturer: Samtec Inc.; Package: None; Manufacturer P/N: FTS-103-01-X-D; Value: *; Availability: Unavailable; Price: None; ComponentLink1Description: Manfacturer; ComponentLink1URL: https://www.samtec.com/products/fts-103-01-l-d; ComponentLink2Description: Datasheet; ComponentLink2URL: https://suddendocs.samtec.com/prints/fts-1xx-xx-xx-xx-xx-x-xx-mkt.pdf; ComponentLink3Description: Product Series; ComponentLink3URL: https://www.samtec.com/products/fts; Mounting Technology: THT
footprint CON-06-SAMTEC-FTS-103-01-X-D
pins: 1, 2, 3, 4, 5, 6

## CON-06-WE-MPC3-66200611022
designator J?, comment 66200611022
WR-MPC3 THT Male Right Angled Header with Plastic Pegs, pitch 3mm, 6p; Manufacturer: Wurth Elektronik; Contact Resistance: 10mOhm; Insulation Resistance: >1000MOhm; Rated Current: 5A; Working Voltage: 250V (AC); Match Code: WR-MPC3; ComponentLink1Description: Website Link; ComponentLink1URL: https://www.we-online.com/redexpert/article/66200611022?ad; ComponentLink2Description: Datasheet Link; ComponentLink2URL: https://www.we-online.com/redexpert/spec/66200611022?ad; Mount: Through Hole; Operating Temperature Max: 105°C; Operating Temperature Min: -40°C; Packaging: Tube; Length: 21.65mm; Width: 9.9mm; Height: 5.57mm; Gender: Male; Number of Pins: 6; Number of Rows: 1; Orientation: Right Angled; Pitch: 3mm; Manufacturer P/N: 66200611022
footprint 66200611022 (3.00mm Male Single Row Angled Header with Plastic Pegs, 6p)
pins: 1, 2, 3, 4, 5, 6

## CON-06-WE-MPC3-66200621122
designator J?, comment WR-MPC3 Vert.
THT Male Header WR-MPC3, Vertical, Dual Row, pitch 3 mm, 6 pins; Manufacturer: Würth Elektronik; Manufacturer P/N: 66200621122; Pitch: 3mm; PinNumber: 6; Working Voltage: 250VAC; Contact Resistance: 10mOhm; Datasheet URL: https://katalog.we-online.de/em/datasheet/6620xx21122.pdf; Orientation: Vertical; Publisher: WurthElektronik; Package Reference: 66200621122; Operating Temperature: -40to105degC; Gender: Male; Manufacturer URL: http://www.we-online.de; Mounting Technology: THT; ComponentLink1Description: Hersteller; ComponentLink1URL: https://katalog.we-online.de/de/em/MPC3_3_00_MALE_DUAL_ROW_VERTICAL_HEADER_6620XX21122; ComponentLink2Description: Datenblatt; ComponentLink2URL: https://katalog.we-online.de/em/datasheet/6620xx21122.pdf
footprint CON-06-WE-66200621122 (Dual row Vertical header 06p)
pins: 1, 2, 3, 4, 5, 6

## CON-06-WE-MPC4-64900621122
designator J?, comment WR-MPC4 Vert.
THT Male Header WR-MPC4, Vertical, Dual Row, pitch 4.2 mm, 6 pins; Manufacturer P/N: 64900621122; Manufacturer: Würth Elektronik; Pitch: 4.2 mm; Working Voltage: 600 VAC; Contact Resistance: 10 mOhm; PinNumber: 6; ComponentLink1Description: Manufacturer; ComponentLink1URL: http://www.we-online.de; ComponentLink2Description: Datasheet; ComponentLink2URL: https://katalog.we-online.de/em/datasheet/6490xx21122.pdf; Published Date: September 2018; Operating Temperature: -40 to 105 degC; Packaging: Tray; Gender: Male; Mounting Technology: THT; Orientation: Vertical; Resistance: *; Tolerance: *; Capacitance: *; Power (W): *; Current (A): *; Voltage (V): *; Value: *; Parameter 3: *
footprint CON-06-WE-64900621122 (4.20mm Male Dual Row Vertical Header, 6p)
pins: 1, 2, 3, 4, 5, 6

## CON-06-WE-PHD-62000611821
designator J?, comment WR-PHD 2mm
WR-PHD Socket Header, THT, Vertical, pitch 2mm, 1 Row, 6P; Manufacturer P/N: 62000611821; Manufacturer: Würth Elektronik; Contact Resistance: 20mΩ; Rated Current: 2A; Working Voltage: 250V; Withstanding Voltage: 500V; ComponentLink1Description: Website Link; ComponentLink1URL: https://www.we-online.com/redexpert/article/62000611821?ad; ComponentLink2Description: Datasheet Link; ComponentLink2URL: https://www.we-online.com/redexpert/spec/62000611821?ad; Category: Board-to-Board Connectors; Match Code: WR-PHD; Mounting Technology: THT; Operating Temperature Max: 105°C; Operating Temperature Min: -40°C; Packaging: Tube; Gender: Socket Header; Number of Pins: 6; Number of Rows: 1; Orientation: Vertical; Pitch: 2mm
footprint 62000611821
pins: 1, 2, 3, 4, 5, 6

## CON-07-WE-MPC3-66200711022
designator J?, comment 66200711022  (value not drawn)
WR-MPC3 THT Male Right Angled Header with Plastic Pegs, pitch 3mm, 7p; Manufacturer: Wurth Elektronik; Contact Resistance: 10mOhm; Insulation Resistance: >1000MOhm; Rated Current: 5A; Working Voltage: 250V (AC); Manufacturer P/N: 66200711022; Match Code: WR-MPC3; ComponentLink1Description: Website Link; ComponentLink1URL: https://www.we-online.com/redexpert/article/66200711022?ad; ComponentLink2Description: Datasheet Link; ComponentLink2URL: https://www.we-online.com/redexpert/spec/66200711022?ad; Mount: Through Hole; Operating Temperature Max: 105°C; Operating Temperature Min: -40°C; Packaging: Tube; Length: 24.65mm; Width: 9.9mm; Height: 5.57mm; Gender: Male; Number of Pins: 7; Number of Rows: 1; Orientation: Right Angled; Pitch: 3mm
footprint 66200711022 (3.00mm Male Single Row Angled Header with Plastic Pegs, 7p)
pins: 1, 2, 3, 4, 5, 6, 7

## CON-08-WE-MPC3-66200811024
designator J?, comment 66200811024  (value not drawn)
WR-MPC3 THT Male Header Single Row Right Angled with Plastic Pegs (Selective Gold), pitch 3mm, 8p; Manufacturer: Wurth Elektronik; Contact Resistance: 10mOhm; Insulation Resistance: >1000MOhm; Rated Current: 5A; Working Voltage: 250V (AC); Manufacturer P/N: 66200811024; Match Code: WR-MPC3; ComponentLink1Description: Website Link; ComponentLink1URL: https://www.we-online.com/redexpert/article/66200811024?ad; ComponentLink2Description: Datasheet Link; ComponentLink2URL: https://www.we-online.com/redexpert/spec/66200811024?ad; Mount: Through Hole; Operating Temperature Max: 105°C; Operating Temperature Min: -40°C; Packaging: Tube; Gender: Male; Number of Pins: 8; Number of Rows: 1; Orientation: Right Angled; Pitch: 3mm
footprint 66200811024 (3.00mm Male Single Row Angled Header with Plastic Pegs, 8p)
pins: 1, 2, 3, 4, 5, 6, 7, 8

## CON-08-WE-MPC3-66200821022
designator J?, comment WR-MPC3 Horiz.
THT Male Header WR-MPC3, with Snap-in Plastic Pegs, Right Angled, Dual Row, pitch 3 mm, 8 pins; Manufacturer P/N: 66200821022; Manufacturer: Würth Elektronik; Pitch: 3 mm; Working Voltage: 250 VAC; Contact Resistance: 10 mOhm; Pin Number: 8; ComponentLink1Description: Manufacturer; ComponentLink1URL: http://www.we-online.de; ComponentLink2Description: Datasheet; ComponentLink2URL: https://katalog.we-online.de/em/datasheet/6620xx21022.pdf; Published Date: September 2018; Operating Temperature: -40 to 105 degC; Packaging: Tube; Gender: Male; Mounting Technology: THT; Orientation: Right Angled
footprint CON-08-WE-66200821022 (Dual row Right angle header With plastic peg 08p)
pins: 1, 2, 3, 4, 5, 6, 7, 8

## CON-08-WE-MPC3-66200821122
designator J?, comment WR-MPC3 Vert.
THT Male Header WR-MPC3, Vertical, Dual Row, pitch 3 mm, 8 pins; Manufacturer P/N: 66200821122; Manufacturer: Würth Elektronik; Pitch: 3 mm; Working Voltage: 250 VAC; Contact Resistance: 10 mOhm; Pin Number: 8; ComponentLink1Description: Manufacturer; ComponentLink1URL: https://www.we-online.de/katalog/de/MPC3_3_00_MALE_DUAL_ROW_VERTICAL_HEADER_6620XX21122/#66200821122; ComponentLink2Description: Datasheet; ComponentLink2URL: https://katalog.we-online.de/em/datasheet/6620xx21122.pdf; Operating Temperature: -40 to 105 degC; Packaging: Tube; Gender: Male; Mounting Technology: THT; Orientation: Vertical; Supplier 1: Mouser; Supplier Part Number 1: 710-66200821122
footprint CON-08-WE-66200821122 (Dual row Vertical header 08p)
pins: 1, 2, 3, 4, 5, 6, 7, 8

## CON-08-WE-MPC4-64900821122
designator J?, comment WR-MPC4 Vert.
THT Male Header WR-MPC4, Vertical, Dual Row, pitch 4.2 mm, 8 pins; Manufacturer P/N: 64900821122; Manufacturer: Würth Elektronik; Pitch: 4.2 mm; Working Voltage: 600 VAC; Contact Resistance: 10 mOhm; PinNumber: 8; ComponentLink1Description: Manufacturer; ComponentLink1URL: http://www.we-online.de; ComponentLink2Description: Datasheet; ComponentLink2URL: https://katalog.we-online.de/em/datasheet/6490xx21122.pdf; Published Date: September 2018; Operating Temperature: -40 to 105 degC; Gender: Male; Mounting Technology: THT; Orientation: Vertical
footprint CON-08-WE-64900821122 (Footprint not found)
pins: 1, 2, 3, 4, 5, 6, 7, 8

## CON-08-WE-WTB-62000811722
designator J?, comment WR-WTB Horiz.
WR-WTB THT Male Horizontal Shrouded Header, pitch 2mm, 8pins; Manufacturer P/N: 62000811722; Manufacturer: Würth Elektronik; Contact Resistance: 20mOhm; Rated Current: 2A; Working Voltage: 125VAC; Withstanding Voltage: 800VAC; ComponentLink1Description: Website Link; ComponentLink1URL: https://www.we-online.com/redexpert/article/62000811722?ad; ComponentLink2Description: Datasheet Link; ComponentLink2URL: https://www.we-online.com/redexpert/spec/62000811722?ad; Category: Wire-to-Board Connectors; Match Code: WR-WTB; Mounting Technology: THT; Operating Temperature Max: 85°C; Operating Temperature Min: -25°C; Packaging: Bag; Length: 18mm; Width: 7.6mm; Height: 4.5mm; Gender: Male; Number of Pins: 8; Number of Rows: 1; Orientation: Horizontal; Pitch: 2mm
footprint 61900819521 (2.54mm Male Right Angled Locking Header Top Locking, 8p)
pins: 1, 2, 3, 4, 5, 6, 7, 8